# Altium footprint library 691 242 910 0xx.PcbLib: 7 footprints
Each footprint in its own frame and in the unit in brackets; x right, y up, seen from the top. Pads: shape width x height; smd on the part's side, far side on the other; paste and mask are expansions set on the pad; w line width, h text height; cw(c..) or ccw(c..) is an arc to the next point about the centre after c.
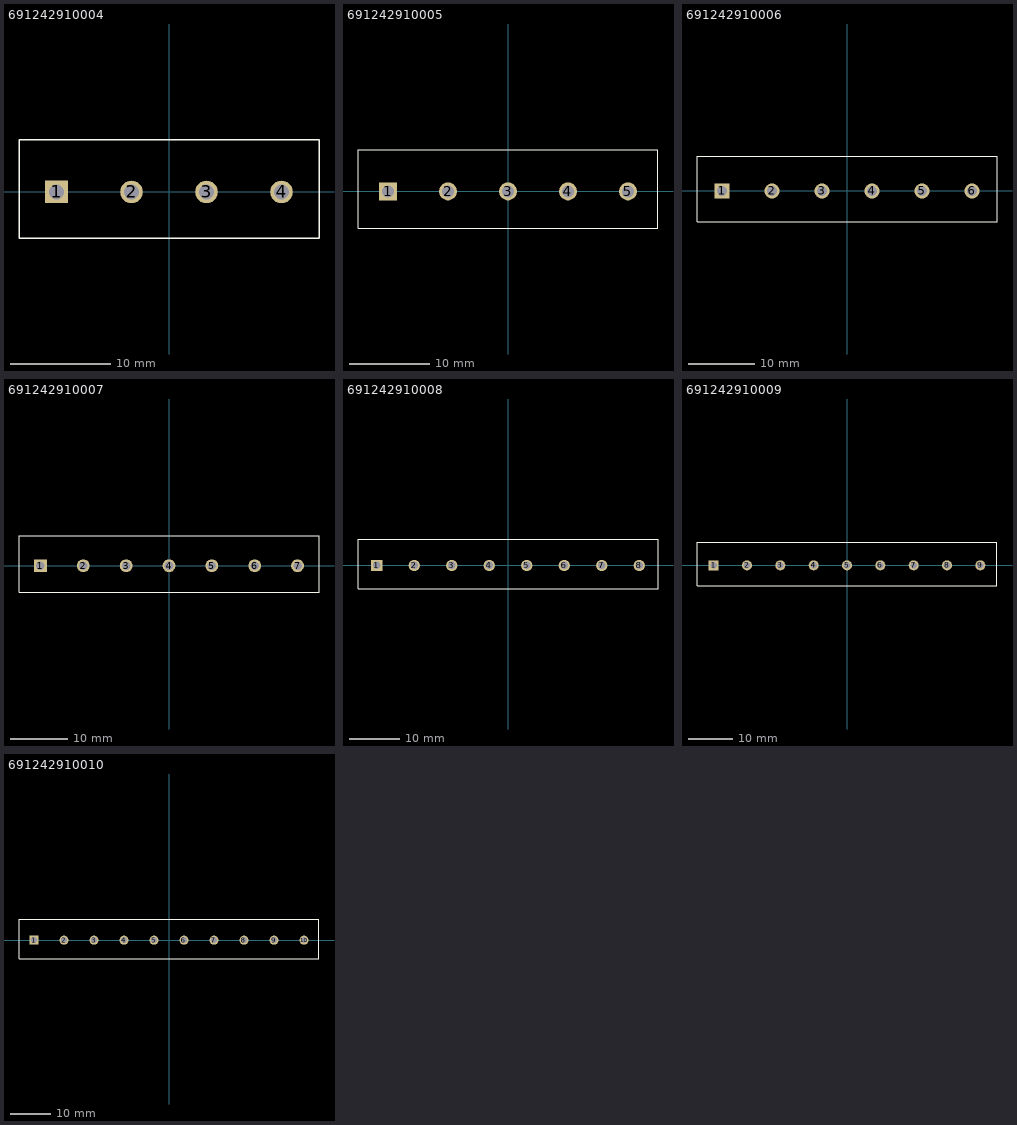
[diagram p0: the footprints below, top view; thin cyan lines are the x and y axes]

## 691242910004 [mm] "Serie 2429 -7.50 mm_4 pins"
height 13.8
pads (4):
  rect 2.25x2.25 hole 1.5: 1(-11.25,0)
  round 2.25 hole 1.5: 2(-3.75,0) 3(3.75,0) 4(11.25,0)
Top Overlay:
  lines w0.127: -15,-4.6 15,-4.6 15,5.2 -15,5.2 -15,-4.6
3D body: height 13.8, standoff -3.5, extent -15,-4.6 15,5.2

## 691242910005 [mm] "Serie 2429 -7.50 mm_5 pins"
height 13.8
pads (5):
  rect 2.25x2.25 hole 1.5: 1(-15,0)
  round 2.25 hole 1.5: 2(-7.5,0) 3(0,0) 4(7.5,0) 5(15,0)
Top Overlay:
  lines w0.127: -18.75,-4.6 -18.75,5.2 18.75,5.2 18.75,-4.6 -18.75,-4.6
3D body: height 13.8, standoff -3.5, extent -18.75,-4.6 18.75,5.2

## 691242910006 [mm] "Serie 2429 -7.50 mm_6 pins"
height 13.8
pads (6):
  rect 2.25x2.25 hole 1.5: 1(-18.75,0)
  round 2.25 hole 1.5: 2(-11.25,0) 3(-3.75,0) 4(3.75,0) 5(11.25,0) 6(18.75,0)
Top Overlay:
  lines w0.127: -22.5,-4.6 -22.5,5.2 22.5,5.2 22.5,-4.6 -22.5,-4.6
3D body: height 13.8, standoff -3.5, extent -22.5,-4.6 22.5,5.2

## 691242910007 [mm] "Serie 2429 -7.50 mm_7 pins"
height 13.8
pads (7):
  rect 2.25x2.25 hole 1.5: 1(-22.5,0)
  round 2.25 hole 1.5: 2(-15,0) 3(-7.5,0) 4(0,0) 5(7.5,0) 6(15,0) 7(22.5,0)
Top Overlay:
  lines w0.127: -26.25,5.2 26.25,5.2 26.25,-4.6 -26.25,-4.6 -26.25,5.15 -26.2,5.2
3D body: height 13.8, standoff -3.5, extent -26.2,-4.6 26.3,5.2

## 691242910008 [mm] "Serie 2429 -7.50 mm_8 pins"
height 13.8
pads (8):
  rect 2.25x2.25 hole 1.5: 1(-26.25,0)
  round 2.25 hole 1.5: 2(-18.75,0) 3(-11.25,0) 4(-3.75,0) 5(3.75,0) 6(11.25,0) 7(18.75,0) 8(26.25,0)
Top Overlay:
  lines w0.127: -30,-4.6 -30,5.2 30,5.2 30,-4.6 -30,-4.6
3D body: height 13.8, standoff -3.5, extent -30,-4.6 30,5.2

## 691242910009 [mm] "Serie 2429 -7.50 mm_9 pins"
height 13.8
pads (9):
  rect 2.25x2.25 hole 1.5: 1(-30,0)
  round 2.25 hole 1.5: 2(-22.5,0) 3(-15,0) 4(-7.5,0) 5(0,0) 6(7.5,0) 7(15,0) 8(22.5,0) 9(30,0)
Top Overlay:
  lines w0.127: -33.75,-4.6 -33.75,5.15 -33.7,5.2 33.7,5.2 ; -33.7,-4.6 33.7,-4.6 ; 33.75,-4.6 33.75,5.2
3D body: height 13.8, standoff -3.5, extent -33.7,-4.6 33.8,5.2

## 691242910010 [mm] "Serie 2429 -7.50 mm_10 pins"
height 13.8
pads (10):
  rect 2.25x2.25 hole 1.5: 1(-33.75,0)
  round 2.25 hole 1.5: 2(-26.25,0) 3(-18.75,0) 4(-11.25,0) 5(-3.75,0) 6(3.75,0) 7(11.25,0) 8(18.75,0) 9(26.25,0) 10(33.75,0)
Top Overlay:
  lines w0.127: -37.5,-4.6 -37.5,5.2 37.5,5.2 37.5,-4.6 -37.5,-4.6
3D body: height 13.8, standoff -3.5, extent -37.5,-4.6 37.5,5.2